# Altium footprint library QFN-56_8x8x05P.PcbLib: 1 footprints
Each footprint in its own frame and in the unit in brackets; x right, y up, seen from the top. Pads: shape width x height; smd on the part's side, far side on the other; paste and mask are expansions set on the pad; w line width, h text height; cw(c..) or ccw(c..) is an arc to the next point about the centre after c.
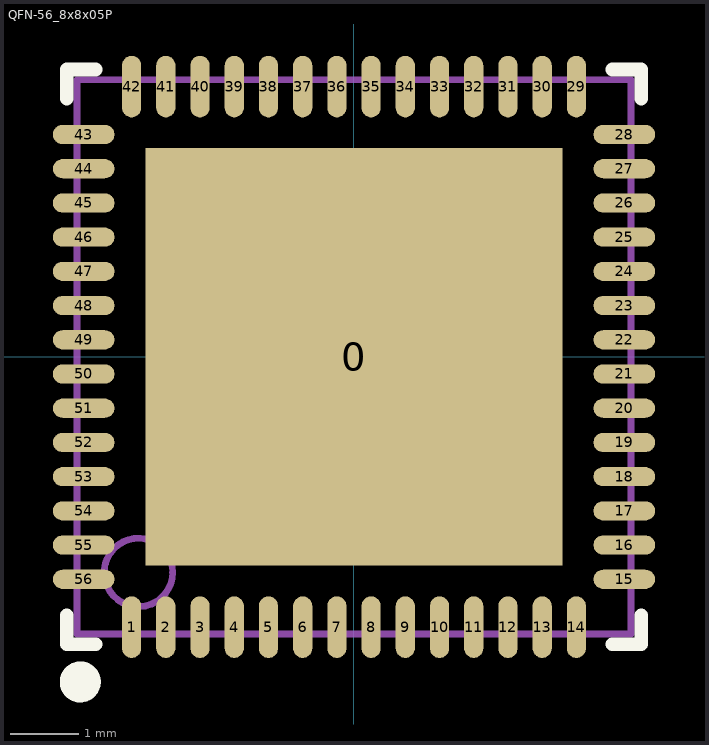
[diagram p0: the footprint, top view; thin cyan lines are the x and y axes]

## QFN-56_8x8x05P [mm]
pads (57):
  rect 6.1x6.1 smd mask+0.051: 0(0,0)
  oval 0.28x0.9 smd mask+0.051: 1(-3.25,-3.95) 2(-2.75,-3.95) 3(-2.25,-3.95) 4(-1.75,-3.95) 5(-1.25,-3.95) 6(-0.75,-3.95) 7(-0.25,-3.95) 8(0.25,-3.95) 9(0.75,-3.95) 10(1.25,-3.95) 11(1.75,-3.95) 12(2.25,-3.95) 13(2.75,-3.95) 14(3.25,-3.95) 29(3.25,3.95) 30(2.75,3.95) 31(2.25,3.95) 32(1.75,3.95) 33(1.25,3.95) 34(0.75,3.95) 35(0.25,3.95) 36(-0.25,3.95) 37(-0.75,3.95) 38(-1.25,3.95) 39(-1.75,3.95) 40(-2.25,3.95) 41(-2.75,3.95) 42(-3.25,3.95)
  oval 0.9x0.28 smd mask+0.051: 15(3.95,-3.25) 16(3.95,-2.75) 17(3.95,-2.25) 18(3.95,-1.75) 19(3.95,-1.25) 20(3.95,-0.75) 21(3.95,-0.25) 22(3.95,0.25) 23(3.95,0.75) 24(3.95,1.25) 25(3.95,1.75) 26(3.95,2.25) 27(3.95,2.75) 28(3.95,3.25) 43(-3.95,3.25) 44(-3.95,2.75) 45(-3.95,2.25) 46(-3.95,1.75) 47(-3.95,1.25) 48(-3.95,0.75) 49(-3.95,0.25) 50(-3.95,-0.25) 51(-3.95,-0.75) 52(-3.95,-1.25) 53(-3.95,-1.75) 54(-3.95,-2.25) 55(-3.95,-2.75) 56(-3.95,-3.25)
Top Overlay:
  circle w0.3: c-4,-4.75 r0.15
  lines w0.2: -4.2,-3.775 -4.2,-4.2 -3.775,-4.2 ; -4.2,3.775 -4.2,4.2 -3.775,4.2 ; 3.775,-4.2 4.2,-4.2 4.2,-3.775 ; 3.775,4.2 4.2,4.2 4.2,3.775
Mechanical 13:
  circle w0.1: c-3.15,-3.15 r0.5
  lines w0.1: -4.05,-4.05 -4.05,4.05 4.05,4.05 4.05,-4.05 -4.05,-4.05
3D body: height 0.95, standoff 0, extent -4.015,-4.05 4.015,3.98